# EAGLE library part 687130149022 (library Eagle_FPC_CONNECTOR_AND_FFC_CAB (rev18c))
WR-FPC 0.50mm SMT Horiz. Bot. Contact Hinge type WR-FPC 0.50mm 30 pins Hinge type SMT Horizontal Bottom Contact ;=>Code : Con_FPC_ZIF_0.50_6871xx149022_687130149022 <http://katalog.we-online.de/media/images/eican/Con_FPC_ZIF_0.50_687115149022_pf2.jpg> Details see: http://katalog.we-online.de/em/datasheet/6871xx149022.pdf Created 2014-10-08, Karrer Zheng 2014 (C) Wurth Elektronik
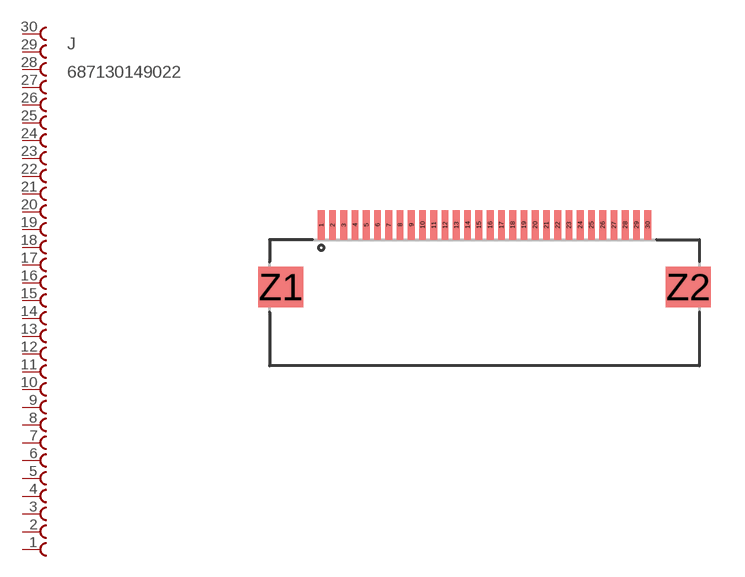
[diagram p117: symbol with the pads of 687130149022; footprint 687130149022]

Designator prefix J

## 687130149022  [687130149022]
1  30  pas
2  29  pas
3  28  pas
4  27  pas
5  26  pas
6  25  pas
7  24  pas
8  23  pas
9  22  pas
10  21  pas
11  20  pas
12  19  pas
13  18  pas
14  17  pas
15  16  pas
16  15  pas
17  14  pas
18  13  pas
19  12  pas
20  11  pas
21  10  pas
22  9  pas
23  8  pas
24  7  pas
25  6  pas
26  5  pas
27  4  pas
28  3  pas
29  2  pas
30  1  pas

## Footprint 687130149022 (pad centres in mm)
WR-FPC 0.50mm SMT Horiz. Bot. Contact Hinge type WR-FPC 0.50mm 30pins Hinge type SMT Horizontal Bottom Contact
smd 0.3 x 1.3: 1 -7.25,0; 2 -6.75,0; 3 -6.25,0; 4 -5.75,0; 5 -5.25,0; 6 -4.75,0; 7 -4.25,0; 8 -3.75,0; 9 -3.25,0; 10 -2.75,0; 11 -2.25,0; 12 -1.75,0; 13 -1.25,0; 14 -0.75,0; 15 -0.25,0; 16 0.25,0; 17 0.75,0; 18 1.25,0; 19 1.75,0; 20 2.25,0; 21 2.75,0; 22 3.25,0; 23 3.75,0; 24 4.25,0; 25 4.75,0; 26 5.25,0; 27 5.75,0; 28 6.25,0; 29 6.75,0; 30 7.25,0
smd 2 x 1.8: Z1 -9.05,-2.75; Z2 9.05,-2.75